# Altium integrated library INN3947CQ.IntLib: 1 symbol
Pins are listed as number, name and electrical type; pins without a type are passive.

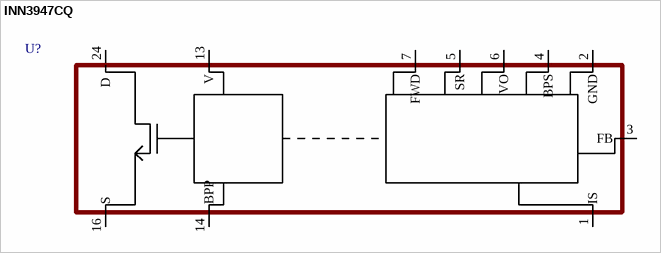
[diagram p0: symbol INN3947CQ]

## INN3947CQ
designator U?
footprint INN3947CQ
pins: 1 IS, 2 GND, 3 FB, 4 BPS, 5 SR, 6 VO, 7 FWD, 13 V, 14 BPP, 16 S, 24 D 